# EAGLE library part GD5F1GQ4UCY1G (library memory)
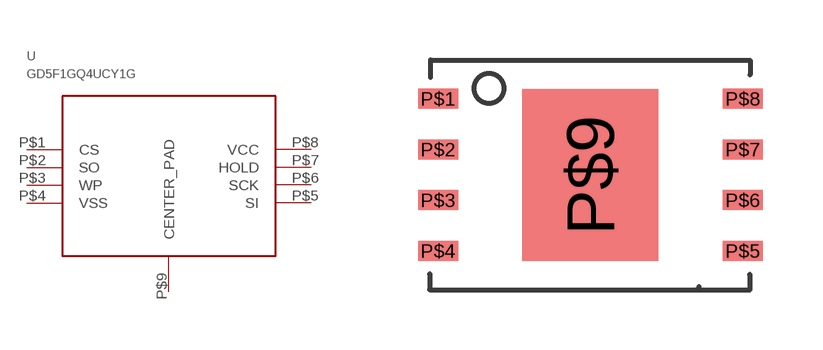
[diagram p0: symbol with the pads of WSON-8; footprint WSON-8]

Designator prefix -

## GD5F1GQ4UCY1G  [WSON-8]
P$1  CS
P$2  SO
P$3  WP
P$4  VSS
P$5  SI
P$6  SCK
P$7  HOLD
P$8  VCC
P$9  CENTER_PAD

## Footprint WSON-8 (pad centres in mm)
smd 1 x 0.5: P$1 0,0; P$2 0,-1.27; P$3 0,-2.54; P$4 0,-3.81; P$5 7.62,-3.81; P$6 7.62,-2.54; P$7 7.62,-1.27; P$8 7.62,0
smd 3.4 x 4.3: P$9 3.8,-1.91